# Altium footprint library WQFN-14(3.0X2.5).PcbLib: 1 footprints
Each footprint in its own frame and in the unit in brackets; x right, y up, seen from the top. Pads: shape width x height; smd on the part's side, far side on the other; paste and mask are expansions set on the pad; w line width, h text height; cw(c..) or ccw(c..) is an arc to the next point about the centre after c.
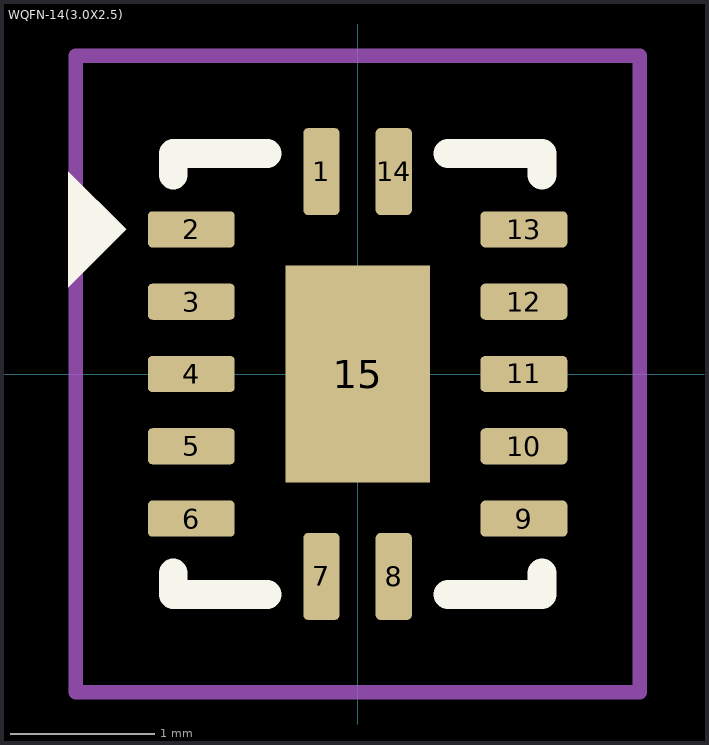
[diagram p0: the footprint, top view; thin cyan lines are the x and y axes]

## WQFN-14(3.0X2.5) [mm]
pads (15):
  rrect25% 0.25x0.6 smd: 1(-0.25,1.4) 7(-0.25,-1.4) 8(0.25,-1.4) 14(0.25,1.4)
  rrect25% 0.6x0.25 smd: 2(-1.15,1) 3(-1.15,0.5) 4(-1.15,0) 5(-1.15,-0.5) 6(-1.15,-1) 9(1.15,-1) 10(1.15,-0.5) 11(1.15,0) 12(1.15,0.5) 13(1.15,1)
  rect 1x1.5 smd: 15(0,0)
Top Overlay:
  region: -2,0.6 -2,1.4 -1.6,1
  lines w0.2: -1.275,-1.375 -1.275,-1.525 -0.625,-1.525 ; -1.275,1.375 -1.275,1.525 -0.625,1.525 ; 0.625,-1.525 1.275,-1.525 1.275,-1.375 ; 0.625,1.525 1.275,1.525 1.275,1.375
Top Courtyard:
  lines w0.1: -1.95,-2.2 1.95,-2.2 1.95,2.2 -1.95,2.2 -1.95,-2.2
3D body "QFN50P250X300X80_HS-15N.step": height 0.8, standoff 0, extent -1.26,-1.51 1.26,1.51